# Altium schematic symbol library BLE112.Schlib: 1 symbol
Pins are listed as number, name and electrical type; pins without a type are passive.

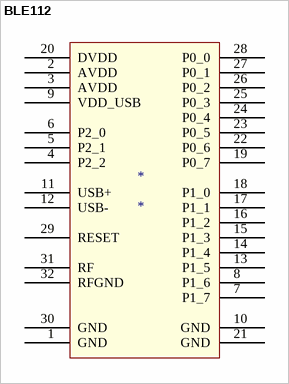
[diagram p0: symbol BLE112]

## BLE112
designator *
pins: 1 GND, 2 AVDD, 3 AVDD, 4 P2_2, 5 P2_1, 6 P2_0, 7 P1_7, 8 P1_6, 9 VDD_USB, 10 GND, 11 USB+, 12 USB-, 13 P1_5, 14 P1_4, 15 P1_3, 16 P1_2, 17 P1_1, 18 P1_0, 19 P0_7, 20 DVDD, 21 GND, 22 P0_6, 23 P0_5, 24 P0_4, 25 P0_3, 26 P0_2, 27 P0_1, 28 P0_0, 29 RESET, 30 GND, 31 RF, 32 RFGND